# EAGLE library part LM2587SX-12/NOPB (library LM2587SX-12)
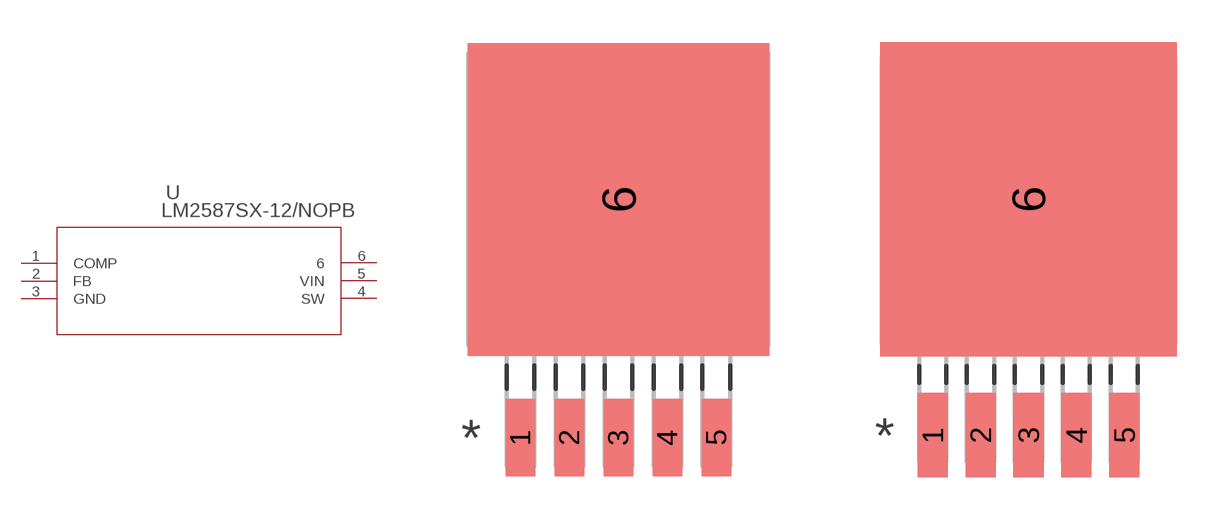
[diagram p0: symbol with the pads of TS5B; footprints TS5B, TS5B-M]

Designator prefix -

## LM2587SX-12/NOPB (MANUFACTURER_PART_NUMBER: LM2587SX12NOPB; VENDOR: National Semiconductor)  [TS5B]
1  COMP  pas
2  FB  pas
3  GND  pas
4  SW  out
5  VIN  in
6  6  pas

## LM2587SX-12/NOPBTS5B-M (MANUFACTURER_PART_NUMBER: LM2587SX12NOPB; VENDOR: National Semiconductor)  [TS5B-M]
Pads as for TS5B

## LM2587SX-12/NOPBTS5B-L (MANUFACTURER_PART_NUMBER: LM2587SX12NOPB; VENDOR: National Semiconductor)  [TS5B-L]
Pads as for TS5B

## Footprint TS5B (pad centres in mm)
smd 1.016 x 2.692: 1 -3.404,-8.28; 2 -1.702,-8.28; 3 0,-8.28; 4 1.702,-8.28; 5 3.404,-8.28
smd 10.465 x 10.871: 6 0,0

## Footprint TS5B-M (pad centres in mm)
smd 1.067 x 2.997: 1 -3.404,-8.331; 2 -1.702,-8.331; 3 0,-8.331; 4 1.702,-8.331; 5 3.404,-8.331
smd 10.516 x 11.176: 6 0,0.051

## Footprint TS5B-L (pad centres in mm)
smd 0.965 x 2.388: 1 -3.404,-8.23; 2 -1.702,-8.23; 3 0,-8.23; 4 1.702,-8.23; 5 3.404,-8.23
smd 10.414 x 10.566: 6 0,-0.051